# Altium footprint library Master.PcbLib: 37 footprints (part 1 of 3)
Each footprint in its own frame and in the unit in brackets; x right, y up, seen from the top. Pads: shape width x height; smd on the part's side, far side on the other; paste and mask are expansions set on the pad; w line width, h text height; cw(c..) or ccw(c..) is an arc to the next point about the centre after c.
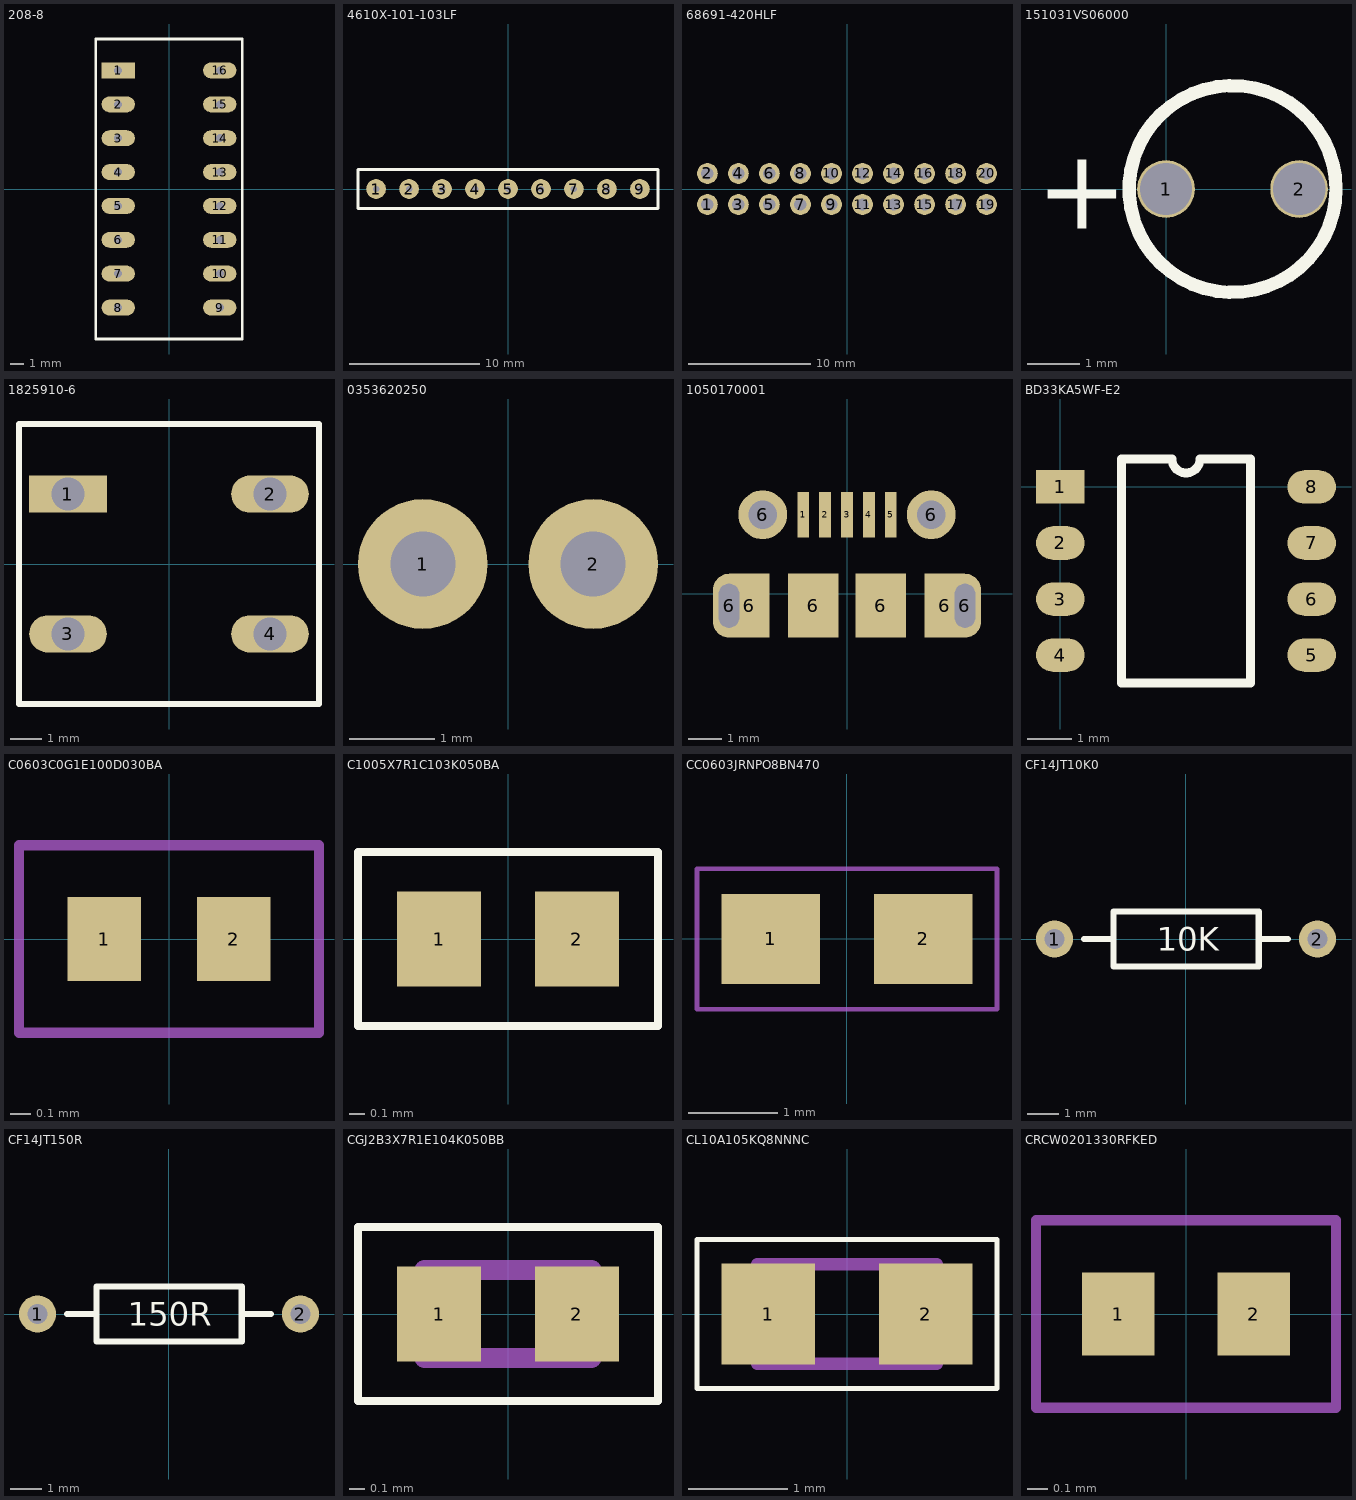
[diagram p0: the footprints below, top view; thin cyan lines are the x and y axes]

## 208-8 [mm] "SWITCH SLIDE DIP SPST 50MA 24V"
pads (16):
  rect 2.5x1.2 hole 0.6: 1(-3.81,8.89)
  oval 2.5x1.2 hole 0.6: 2(-3.81,6.35) 3(-3.81,3.81) 4(-3.81,1.27) 5(-3.81,-1.27) 6(-3.81,-3.81) 7(-3.81,-6.35) 8(-3.81,-8.89) 9(3.81,-8.89) 10(3.81,-6.35) 11(3.81,-3.81) 12(3.81,-1.27) 13(3.81,1.27) 14(3.81,3.81) 15(3.81,6.35) 16(3.81,8.89)
Top Overlay:
  lines w0.2: -5.5,-11.25 -5.5,11.25 5.5,11.25 5.5,-11.25 -5.5,-11.25
3D body "208-8.step": height 8.64, standoff -3.66, extent -4.89,-11.25 4.89,11.25

## 4610X-101-103LF [mil] "RES ARRAY 9 RES 10K OHM 10SIP"
pads (9):
  round 60 hole 19.68: 1(-400,0) 2(-300,0) 3(-200,0) 4(-100,0) 5(0,0) 6(100,0) 7(200,0) 8(300,0) 9(400,0)
Top Overlay:
  lines w10: -455,-59.06 -455,59.06 455,59.06 455,-59.06 -455,-59.06
3D body "4610X-101-103LF.step": height 187.17, standoff -129.92, extent -448.81,-49.56 449.22,47.76

## 68691-420HLF [mm] "CONN HEADER VERT 20POS 2.54MM"
pads (20):
  round 1.7 hole 1.02: 1(-11.43,-1.27) 2(-11.43,1.27) 3(-8.89,-1.27) 4(-8.89,1.27) 5(-6.35,-1.27) 6(-6.35,1.27) 7(-3.81,-1.27) 8(-3.81,1.27) 9(-1.27,-1.27) 10(-1.27,1.27) 11(1.27,-1.27) 12(1.27,1.27) 13(3.81,-1.27) 14(3.81,1.27) 15(6.35,-1.27) 16(6.35,1.27) 17(8.89,-1.27) 18(8.89,1.27) 19(11.43,-1.27) 20(11.43,1.27)
3D body "68691-420HLF.STEP": height 9.03, standoff -3.04, extent -12.7,-2.413 12.7,2.413

## 151031VS06000 [mm] "LED GREEN DIFFUSED 3MM ROUND T/H"
pads (2):
  round 1.1 hole 1: 1(0,0) 2(2.54,0)
Top Overlay:
  circle w0.254: c1.27,0 r1.975
  text "+" at -2.483,-0.762 h1.52
3D body "151031VS06000.STEP": height 5.3, standoff -4.67, extent -0.655,-1.924 2.79,1.924

## 1825910-6 [mm] "SWITCH TACTILE SPST-NO 0.05A 24V"
pads (4):
  rect 2.5x1.2 hole 1.05: 1(-3.25,2.25)
  oval 2.5x1.2 hole 1.05: 2(3.25,2.25) 3(-3.25,-2.25) 4(3.25,-2.25)
Top Overlay:
  lines w0.2: -4.826,-4.5 -4.826,4.5 4.826,4.5 4.826,-4.5 -4.826,-4.5
3D body "1825910-6.step": height 5.06, standoff -3.45, extent -3.894,-2.995 3.894,2.995

## 0353620250 [mil] "CONN HEADER VERT 2POS 2MM"
pads (2):
  round 60 hole 30: 1(-39.37,0) 2(39.37,0)
3D body "0353620250.stp": height 340.55, standoff -124.02, extent -151.57,-102.36 151.58,116.15

## 1050170001 [mm] "CONN RCPT USB2.0 MICRO B SMD R/A"
pads (13):
  rect 0.35x1.35 smd: 1(-1.3,2.35) 2(-0.65,2.35) 3(0,2.35) 4(0.65,2.35) 5(1.3,2.35)
  oval 0.95x1.9 hole 0.6 slot 1.3 at 90 deg: 6(-3.5,-0.35) 6(3.5,-0.35)
  rect 1.2x1.9 smd: 6(-2.9,-0.35) 6(2.9,-0.35)
  round 1.45 hole 0.85: 6(-2.5,2.35) 6(2.5,2.35)
  rect 1.5x1.9 smd: 6(-1,-0.35) 6(1,-0.35)
3D body "1050170001.STEP": height 2.78, standoff -0.53, extent -4.1,-2.877 4.1,2.523

## BD33KA5WF-E2 [mm] "IC REG LINEAR 3.3V 500MA 8SOP"
pads (8):
  rect 1.1x0.76 smd: 1(0,0)
  oval 1.1x0.76 smd: 2(0,-1.27) 3(0,-2.54) 4(0,-3.81) 5(5.7,-3.81) 6(5.7,-2.54) 7(5.7,-1.27) 8(5.7,0)
Top Overlay:
  lines w0.2: 1.385,-4.445 4.315,-4.445 4.315,0.635 3.167,0.635 cw(c2.85,0.635) 2.532,0.635 1.385,0.635 1.385,-4.445
3D body "BD33KA5WF-E2.STEP": height 1.5, standoff 0, extent -0.254,-4.407 5.944,0.597

## C0603C0G1E100D030BA [mm] "CAP CER 10PF 25V C0G 0201"
pads (2):
  rect 0.35x0.4 smd: 1(-0.31,0) 2(0.31,0)
Mechanical 15:
  lines w0.05: -0.718,-0.448 0.718,-0.448 0.718,0.448 -0.718,0.448 -0.718,-0.448
3D body "C0603C0G1E100D030BA.STEP": height 0.3, standoff 0, extent -0.3,-0.15 0.3,0.15

## C1005X7R1C103K050BA [mm] "CAP CER 10000PF 16V X7R 0402"
pads (2):
  rect 0.53x0.6 smd: 1(-0.437,0) 2(0.437,0)
Top Overlay:
  lines w0.05: -0.95,-0.55 0.95,-0.55 0.95,0.55 -0.95,0.55 -0.95,-0.55
3D body "C1005X7R1C103K050BA.STEP": height 0.49, standoff -0.01, extent -0.5,-0.275 0.5,0.275

## CC0603JRNPO8BN470 [mm] "CAP CER 47PF 25V NPO 0603"
pads (2):
  rect 1.1x1 smd: 1(-0.85,0) 2(0.85,0)
Mechanical 15:
  lines w0.051: -1.673,-0.783 1.673,-0.783 1.673,0.783 -1.673,0.783 -1.673,-0.783
3D body "CC0603JRNPO8BN470.STEP": height 0.79, standoff 0, extent -0.8,-0.45 0.8,0.45

## CF14JT10K0 [mm] "RES 10K OHM 1/4W 5% AXIAL"
pads (2):
  round 1.2 hole 0.65: 1(-4.25,0) 2(4.25,0)
Top Overlay:
  lines w0.2: -3.302,0 -2.354,0 ; 2.354,0 3.302,0 ; -2.345,-0.889 -2.345,0.889 2.354,0.889 2.354,-0.889 -2.345,-0.889
  text "10K" at -0.952,-0.381 h0.76
3D body "CF14JT10K0.stp": height 2.41, standoff -1.75, extent -4.525,-1.16 4.525,1.16

## CF14JT150R [mm] "RES 150 OHM 1/4W 5% AXIAL"
pads (2):
  round 1.2 hole 0.65: 1(-4.25,0) 2(4.25,0)
Top Overlay:
  lines w0.2: -3.302,0 -2.354,0 ; 2.354,0 3.302,0 ; -2.345,-0.889 -2.345,0.889 2.354,0.889 2.354,-0.889 -2.345,-0.889
  text "150R" at -1.329,-0.381 h0.76
3D body "CF14JT150R.stp": height 2.41, standoff -1.75, extent -4.525,-1.16 4.525,1.16

## CGJ2B3X7R1E104K050BB [mm] "CAP CER 0.1UF 25V X7R 0402"
pads (2):
  rect 0.53x0.6 smd: 1(-0.437,0) 2(0.437,0)
Top Overlay:
  lines w0.05: -0.95,-0.55 0.95,-0.55 0.95,0.55 -0.95,0.55 -0.95,-0.55
Mechanical 13:
  lines w0.127: -0.53,-0.28 -0.53,0.28 0.53,0.28 0.53,-0.28 -0.53,-0.28
3D body "CGJ2B3X7R1E104K050BB.STEP": height 0.5, standoff 0, extent -0.5,-0.275 0.5,0.275

## CL10A105KQ8NNNC [mm] "CAP CER 1UF 6.3V X5R 0603"
pads (2):
  rect 0.94x1.02 smd: 1(-0.79,0) 2(0.79,0)
Top Overlay:
  lines w0.05: -1.508,-0.75 1.508,-0.75 1.508,0.75 -1.508,0.75 -1.508,-0.75
Mechanical 13:
  lines w0.127: -0.9,-0.5 0.9,-0.5 0.9,0.5 -0.9,0.5 -0.9,-0.5
3D body "CL10A105KQ8NNNC.STEP": height 0.81, standoff 0.01, extent -0.8,-0.45 0.8,0.45

## CRCW0201330RFKED [mm] "RES SMD 330 OHM 1% 1/20W 0201"
pads (2):
  rect 0.35x0.4 smd: 1(-0.325,0) 2(0.325,0)
Mechanical 15:
  lines w0.05: -0.72,-0.45 0.72,-0.45 0.72,0.45 -0.72,0.45 -0.72,-0.45
3D body "CRCW0201330RFKED.STEP": height 0.28, standoff 0, extent -0.3,-0.15 0.3,0.15